# Altium footprint library PCB - CONNECTOR - AMPHENOL - AMPHENOL ICC 54601-906WPLF.PCBLIB: 1 footprints
Each footprint in its own frame and in the unit in brackets; x right, y up, seen from the top. Pads: shape width x height; smd on the part's side, far side on the other; paste and mask are expansions set on the pad; w line width, h text height; cw(c..) or ccw(c..) is an arc to the next point about the centre after c.
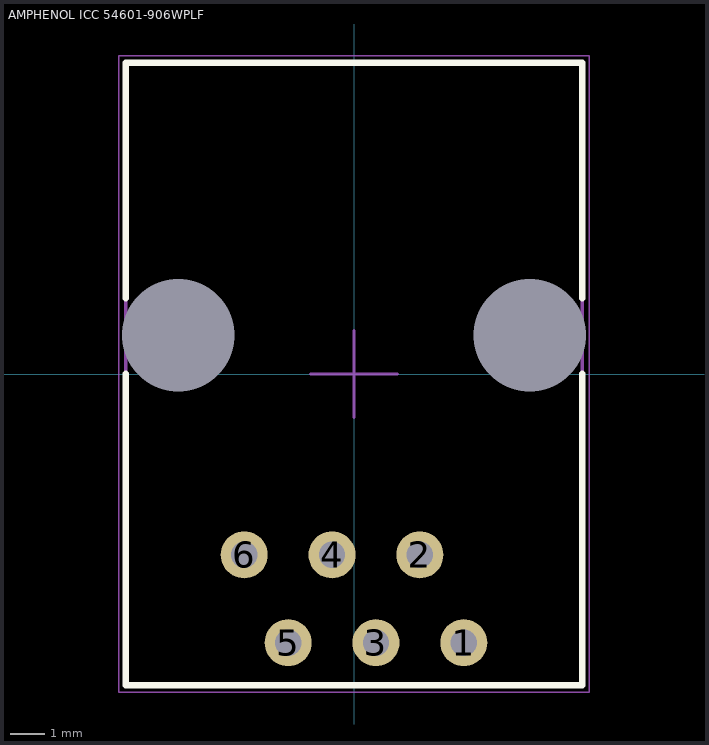
[diagram p0: the footprint, top view; thin cyan lines are the x and y axes]

## AMPHENOL ICC 54601-906WPLF [mm] "Jack Modular Connector 6p6c (RJ11, RJ12, RJ14, RJ25) 90° Angle (Right) Unshielded Cat3"
height 11.65
pads (8):
  round 1.36 hole 0.76: 1(3.175,-7.77) 2(1.905,-5.23) 3(0.635,-7.77) 4(-0.635,-5.23) 5(-1.905,-7.77) 6(-3.175,-5.23)
  round 0 hole 3.25: ""(-5.08,1.12) ""(5.08,1.12)
Top Overlay:
  lines w0.2: -6.6,0 -6.6,-9 6.6,-9 6.6,0 ; 6.6,2.2 6.6,9 -6.6,9 -6.6,2.2 ; -6.6,2.2 -6.6,2.2
Mechanical 13 (Mech13):
  lines w0.1: -6.6,-9 6.6,-9 6.6,9 -6.6,9 -6.6,-9
Mechanical 15:
  lines w0.05: -6.8,-9.2 -6.8,9.2 6.8,9.2 6.8,-9.2 -6.8,-9.2
  lines w0.1: -1.25,0 0,0 ; 0,-1.25 0,0 ; 0,1.25 0,0 ; 1.25,0 0,0
3D body "Amphenol ICC - 54601-906WPLFc v4.step": height 11.5, standoff -3.75, extent -6.6,-9 6.6,9